# EAGLE library part X__OLIMEX_UEXT (library ++Bedrahtet)
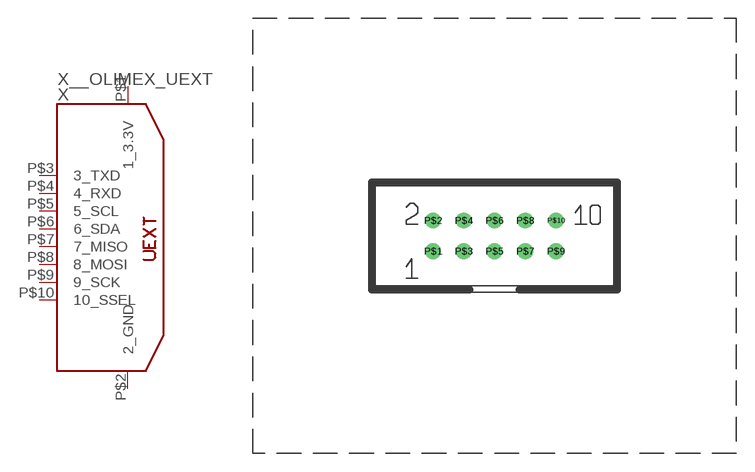
[diagram p26: symbol with the pads of OLIMEX_UEXT; footprint OLIMEX_UEXT]

Designator prefix X

## X__OLIMEX_UEXT  [OLIMEX_UEXT]
P$1  1_3.3V
P$2  2_GND
P$3  3_TXD
P$4  4_RXD
P$5  5_SCL
P$6  6_SDA
P$7  7_MISO
P$8  8_MOSI
P$9  9_SCK
P$10  10_SSEL

## Footprint OLIMEX_UEXT (pad centres in mm)
drill 0.8: P$1 -5.08,-1.27; P$2 -5.08,1.27; P$3 -2.54,-1.27; P$4 -2.54,1.27; P$5 0,-1.27; P$6 0,1.27; P$7 2.54,-1.27; P$8 2.54,1.27; P$9 5.08,-1.27; P$10 5.08,1.27